# Altium footprint library SOIC8P127_490X599X175L83X41N.PcbLib: 1 footprints
Each footprint in its own frame and in the unit in brackets; x right, y up, seen from the top. Pads: shape width x height; smd on the part's side, far side on the other; paste and mask are expansions set on the pad; w line width, h text height; cw(c..) or ccw(c..) is an arc to the next point about the centre after c.
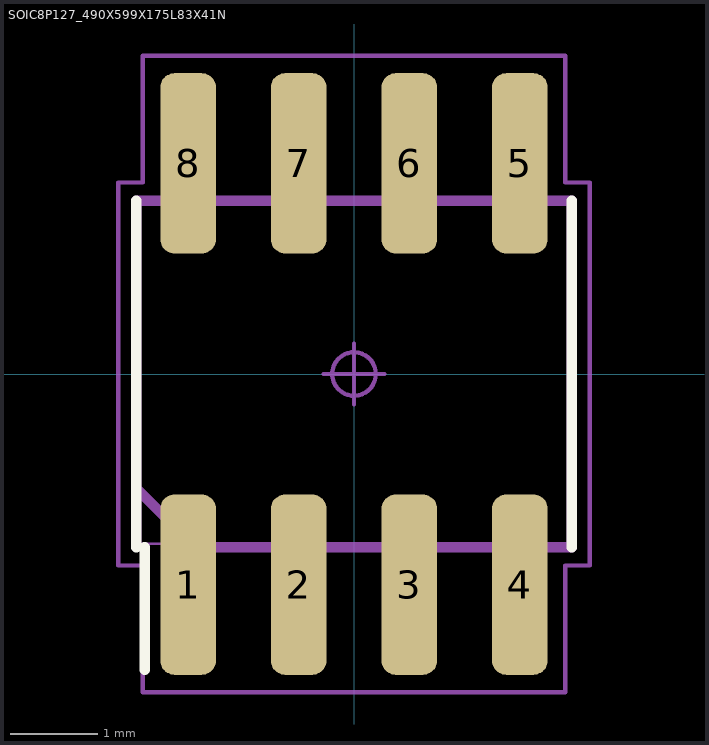
[diagram p0: the footprint, top view; thin cyan lines are the x and y axes]

## SOIC8P127_490X599X175L83X41N [mm] "Small Outline IC (SOIC), 1.27 mm pitch; 8 pin, 4.903 mm L X 3.899 mm W X 1.752 mm H body"
height 1.752
pads (8):
  rrect50% 0.64x2.07 smd: 1(-1.905,-2.42) 2(-0.635,-2.42) 3(0.635,-2.42) 4(1.905,-2.42) 5(1.905,2.42) 6(0.635,2.42) 7(-0.635,2.42) 8(-1.905,2.42)
Top Overlay:
  lines w0.12: -2.5,-1.99 -2.5,1.99 ; -2.405,-3.395 -2.405,-1.99 ; 2.5,-1.99 2.5,1.99
Mechanical 3:
  lines w0.12: -2.5,-1.31 -1.82,-1.99 2.5,-1.99 2.5,1.99 -2.5,1.99 -2.5,-1.31
Mechanical 5:
  lines w0.025: -2.451,-1.95 -2.451,1.95 2.451,1.95 2.451,-1.95 -2.451,-1.95 ; -2.114,-2.997 -1.696,-2.997 -1.696,-2.159 -2.114,-2.159 -2.114,-2.997 ; -2.114,2.159 -1.696,2.159 -1.696,2.997 -2.114,2.997 -2.114,2.159 ; -0.844,-2.997 -0.426,-2.997 -0.426,-2.159 -0.844,-2.159 -0.844,-2.997 ; -0.844,2.159 -0.426,2.159 -0.426,2.997 -0.844,2.997 -0.844,2.159 ; 0.426,-2.997 0.844,-2.997 0.844,-2.159 0.426,-2.159 0.426,-2.997 ; 0.426,2.159 0.844,2.159 0.844,2.997 0.426,2.997 0.426,2.159 ; 1.696,-2.997 2.114,-2.997 2.114,-2.159 1.696,-2.159 1.696,-2.997 ; 1.696,2.159 2.114,2.159 2.114,2.997 1.696,2.997 1.696,2.159
Mechanical 7:
  circle w0.05: c0,0 r0.25
  lines w0.05: -0.35,0 0.35,0 ; 0,-0.35 0,0.35 ; -2.71,-2.2 -2.71,2.2 -2.425,2.2 -2.425,3.655 2.425,3.655 2.425,2.2 2.71,2.2 2.71,-2.2 2.425,-2.2 2.425,-3.655 -2.425,-3.655 -2.425,-2.2 -2.71,-2.2
Mechanical 9:
  text "'.Designator'" at -5.334,-0.508 h1.02
3D body "SOIC8P127_490X599X175L83X41.STEP": height 1.75, standoff 0, extent -2.451,-2.997 2.451,2.997
3D body: height 1, standoff 0, extent -2.71,-3.655 2.71,3.655